# EAGLE library part 632722110112 (library WR-USB_Rev20b)
WR-COM USB 3.1 Type C Receptacle Vertical SMT 1.0 mm Kind Properties Durability:10 000 Mating cycles Gender: Receptacle Type:Vertical General Information Operating Temperature:-40up to +85 °C Compliance:Lead free / RoHS Electrical Properties IR 1:5A Working Voltage:20V (DC) Withstanding Voltage:100V (AC) Contact Resistance:40 mΩ Material Properties Insulator Material:LCP Insulator Flammability Rating:UL94 V-0 Color:Black Contact Material:Copper Alloy Contact Plating:Gold over Nickel Contact Type:Stamped Shielding Material:Stainless Steel Shielding Plating:Nickel <https://www.we-online.com/catalog/media/o77237v209%20Family_WR-USB31_632722110112.jpg> Details see: https://www.we-online.com/catalog/en/COM_3_1_SMT_TYPE_C_RECEPTACLE_HORIZONTAL_1_0MM/ Updated by Yingchun, Shan 2020-01-17 2020 (C) Würth Elektronik
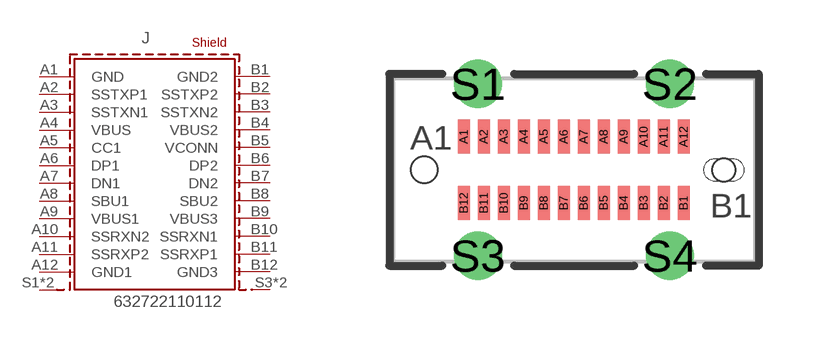
[diagram p7: symbol with the pads of 632722110112; footprint 632722110112]

Designator prefix J

## 632722110112 (APPLICATION: USB 3.1; DATASHEET-URL: https://www.we-online.com/catalog/datasheet/632722110112.pdf; GERDER: Receptacle; INTERFACE-TYPE: Type C; IR1: 5A; MOUNT: SMT; PACKAGING: Tape and Reel; PART-NUMBER: 632722110112; PINS: 24; TYPE: Vertical; VALUE: 632722110112; WORKING-VOLTAGE: 20V(DC))  [632722110112]
A1  GND
A2  SSTXP1
A3  SSTXN1
A4  VBUS
A5  CC1
A6  DP1
A7  DN1
A8  SBU1
A9  VBUS1
A10  SSRXN2
A11  SSRXP2
A12  GND1
B1  GND2
B2  SSTXP2
B3  SSTXN2
B4  VBUS2
B5  VCONN
B6  DP2
B7  DN2
B8  SBU2
B9  VBUS3
B10  SSRXN1
B11  SSRXP1
B12  GND3
S1  SHIELD
S2  SHIELD
S3  SHIELD1
S4  SHIELD1

## Footprint 632722110112 (pad centres in mm)
WR-COM USB 3.1 Type C Receptacle Vertical SMT 1.0 mm
smd 0.3 x 0.85: A1 -2.75,0.83; A2 -2.25,0.83; A3 -1.75,0.83; A4 -1.25,0.83; A5 -0.75,0.83; A6 -0.25,0.83; A7 0.25,0.83; A8 0.75,0.83; A9 1.25,0.83; A10 1.75,0.83; A11 2.25,0.83; A12 2.75,0.83; B1 2.75,-0.83; B2 2.25,-0.83; B3 1.75,-0.83; B4 1.25,-0.83; B5 0.75,-0.83; B6 0.25,-0.83; B7 -0.25,-0.83; B8 -0.75,-0.83; B9 -1.25,-0.83; B10 -1.75,-0.83; B11 -2.25,-0.83; B12 -2.75,-0.83
drill 0.7 pad 1.2: S1 -2.4,2.15; S2 2.4,2.15; S3 -2.4,-2.15; S4 2.4,-2.15
hole 0.66 at -3.75,0
hole 0.58 at 3.75,0